# EAGLE library part S-DPDT- (library elpp-tht-v1.2)
Switch Double-pole Double-throw (DPDT), toggle, 0.4 VA
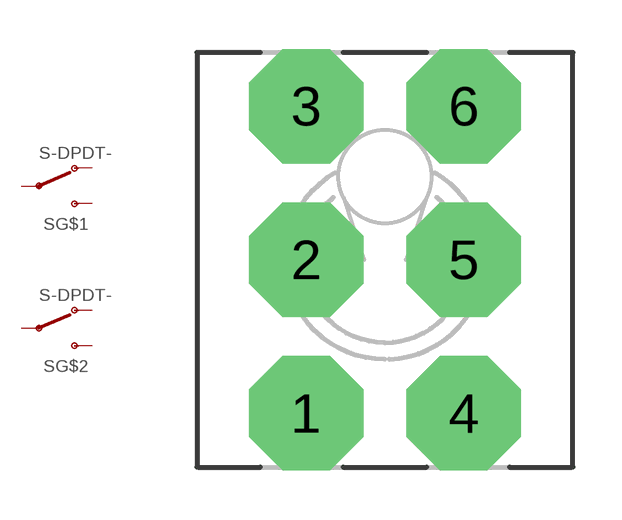
[diagram p46: symbol with the pads of ELPP-S-TOGGLE-DPDT; footprint ELPP-S-TOGGLE-DPDT]

Designator prefix S; gates G$1=SWITCH-SPDT G$2=SWITCH-SPDT

## S-DPDT- (FARNELL: 1197677; RS: 7109983)  [ELPP-S-TOGGLE-DPDT]
1  G$1:O  pas
2  G$1:P  pas
3  G$1:S  pas
4  G$2:O  pas
5  G$2:P  pas
6  G$2:S  pas

## Footprint ELPP-S-TOGGLE-DPDT (pad centres in mm)
drill 2 pad 3.5 octagon: 1 -2.413,-4.699; 2 -2.413,0; 3 -2.413,4.699; 4 2.413,-4.699; 5 2.413,0; 6 2.413,4.699